# Altium footprint library SOT.PcbLib: 13 footprints
Each footprint in its own frame and in the unit in brackets; x right, y up, seen from the top. Pads: shape width x height; smd on the part's side, far side on the other; paste and mask are expansions set on the pad; w line width, h text height; cw(c..) or ccw(c..) is an arc to the next point about the centre after c.
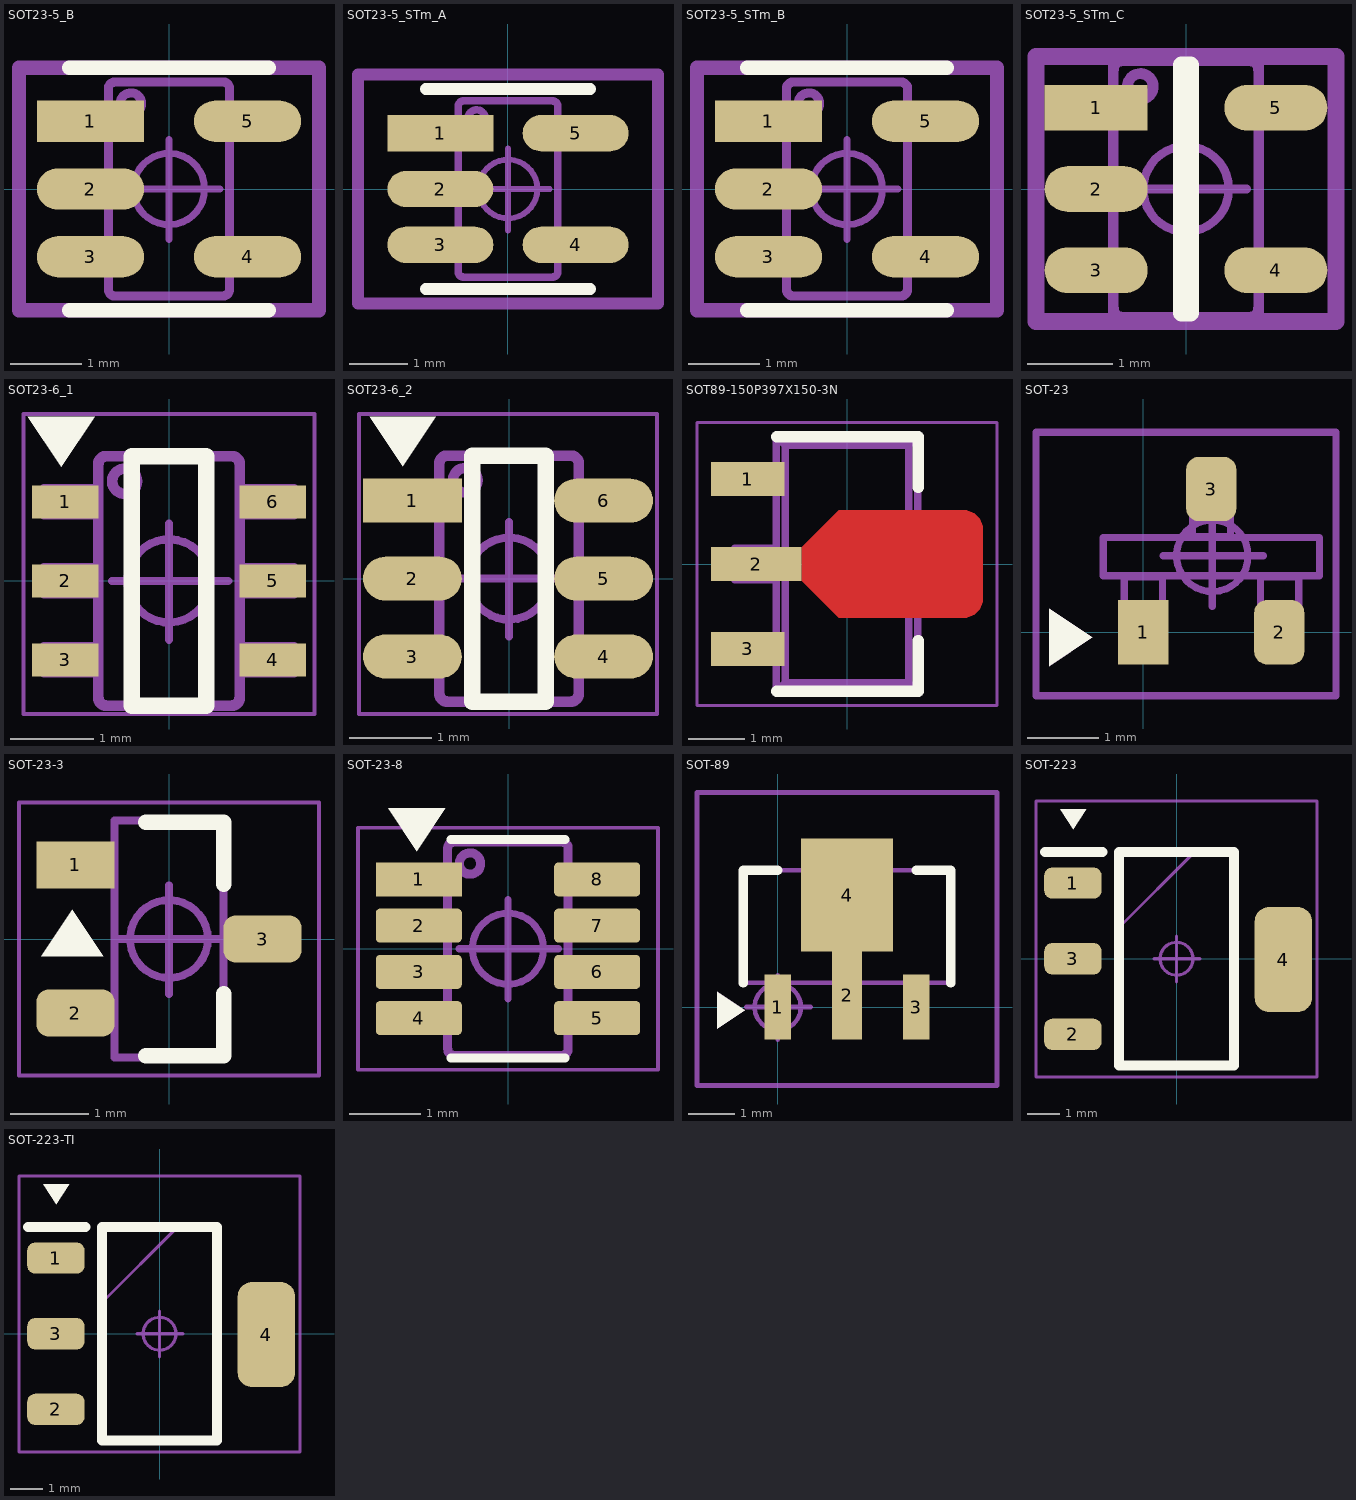
[diagram p0: the footprints below, top view; thin cyan lines are the x and y axes]

## SOT23-5_B [mm]
height 1.45
pads (5):
  rect 1.505x0.576 smd paste+0 mask+0: 1(-1.101,0.95)
  rrect100% 1.505x0.576 smd paste+0 mask+0: 2(-1.101,0) 3(-1.101,-0.95) 4(1.101,-0.95) 5(1.101,0.95)
Top Overlay:
  lines w0.2: -1.4,-1.7 1.4,-1.7 ; -1.4,1.7 1.4,1.7
Top Assembly:
  circle w0.127: c-0.534,1.198 r0.15
  lines w0.127: -0.85,-1.1 -1.05,-1.1 -1.25,-1.1 ; -0.85,-0.8 -1.05,-0.8 -1.25,-0.8 ; -0.85,-0.15 -1.05,-0.15 -1.25,-0.15 ; -0.85,0.15 -1.05,0.15 -1.25,0.15 ; -0.85,0.8 -1.25,0.8 ; -0.85,1.1 -1.25,1.1 ; -0.847,-1.417 ccw(c-0.76,-1.412) -0.755,-1.5 ; -0.767,1.499 ccw(c-0.762,1.411) -0.85,1.407 -0.85,-1.406 -0.85,-1.4 -0.85,-1.4 ; -0.75,-1.5 0.75,-1.5 ; -0.75,1.5 0.75,1.5 ; 0.755,1.5 cw(c0.76,1.412) 0.847,1.417 0.847,1.338 0.847,-1.407 cw(c0.76,-1.411) 0.764,-1.499 ; 0.847,0.8 1.05,0.8 1.25,0.8 ; 0.847,1.1 1.05,1.1 1.25,1.1 ; 0.85,-1.1 1.05,-1.1 1.25,-1.1 ; 0.85,-0.8 1.05,-0.8 1.25,-0.8 ; -1.25,-1.1 -1.35,-1.1 -1.5,-1.1 -1.5,-0.8 -1.35,-0.8 -1.25,-0.8 ; -1.25,-1.1 -1.25,-0.8 ; -1.25,-0.15 -1.35,-0.15 -1.5,-0.15 -1.5,0.15 -1.35,0.15 -1.25,0.15 ; -1.25,-0.15 -1.25,0.15 ; -1.25,0.8 -1.25,1.1 ; -1.25,0.8 -1.35,0.8 -1.5,0.8 -1.5,1.1 -1.35,1.1 -1.25,1.1 ; -0.85,-1.4 -0.85,-1.401 ; -0.85,-1.4 -0.85,-1.4 ; 1.25,-1.1 1.35,-1.1 1.5,-1.1 1.5,-0.8 1.35,-0.8 1.25,-0.8 ; 1.25,-1.1 1.25,-0.8 ; 1.25,0.8 1.25,1.1 ; 1.25,0.8 1.35,0.8 1.5,0.8 1.5,1.1 1.35,1.1 1.25,1.1
Top Component Outline:
  lines w0.2: -2.103,-1.7 2.103,-1.7 2.103,1.7 -2.103,1.7 -2.103,-1.7
Bottom Component Outline:
  lines w0.2: -2.103,-1.7 2.103,-1.7 2.103,1.7 -2.103,1.7 -2.103,-1.7
Top Component Center:
  circle w0.1: c0,0 r0.5
  lines w0.1: -0.686,0 0.711,0 ; -0.001,-0.706 -0.001,0.691
3D body "SOT23-5.stp": height 1.45, standoff 0, extent -1.412,-1.45 1.412,1.45

## SOT23-5_STm_A [mm]
height 1.45
pads (5):
  rect 1.805x0.616 smd paste+0 mask+0: 1(-1.151,0.95)
  rrect100% 1.805x0.616 smd paste+0 mask+0: 2(-1.151,0) 3(-1.151,-0.95) 4(1.151,-0.95) 5(1.151,0.95)
Top Overlay:
  lines w0.2: -1.4,-1.7 1.4,-1.7 ; -1.4,1.7 1.4,1.7
Top Assembly:
  drawing of 590 lines, arcs and shapes, not listed
Top Component Outline:
  lines w0.2: -2.553,-1.95 2.553,-1.95 2.553,1.95 -2.553,1.95 -2.553,-1.95
Bottom Component Outline:
  lines w0.2: -2.553,-1.95 2.553,-1.95 2.553,1.95 -2.553,1.95 -2.553,-1.95
Top Component Center:
  circle w0.1: c0,0 r0.5
  lines w0.1: -0.686,0 0.711,0 ; -0.001,-0.706 -0.001,0.691
3D body "IC_STMicroelectronics_LMV321ILT_eec.STEP": height 1.45, standoff 0, extent -1.412,-1.45 1.412,1.45

## SOT23-5_STm_B [mm]
height 1.45
pads (5):
  rect 1.505x0.576 smd paste+0 mask+0: 1(-1.101,0.95)
  rrect100% 1.505x0.576 smd paste+0 mask+0: 2(-1.101,0) 3(-1.101,-0.95) 4(1.101,-0.95) 5(1.101,0.95)
Top Overlay:
  lines w0.2: -1.4,-1.7 1.4,-1.7 ; -1.4,1.7 1.4,1.7
Top Assembly:
  drawing of 590 lines, arcs and shapes, not listed
Top Component Outline:
  lines w0.2: -2.103,-1.7 -2.103,1.7 2.103,1.7 2.103,-1.7 -2.103,-1.7
Bottom Component Outline:
  lines w0.2: -2.103,-1.7 -2.103,1.7 2.103,1.7 2.103,-1.7 -2.103,-1.7
Top Component Center:
  circle w0.1: c0,0 r0.5
  lines w0.1: -0.686,0 0.711,0 ; -0.001,-0.706 -0.001,0.691
3D body "IC_STMicroelectronics_LMV321ILT_eec.STEP": height 1.45, standoff 0, extent -1.412,-1.45 1.412,1.45

## SOT23-5_STm_C [mm]
height 1.45
pads (5):
  rect 1.205x0.536 smd paste+0 mask+0: 1(-1.051,0.95)
  rrect100% 1.205x0.536 smd paste+0 mask+0: 2(-1.051,0) 3(-1.051,-0.95) 4(1.051,-0.95) 5(1.051,0.95)
Top Overlay:
  lines w0.2: -0.052,-1.45 0.052,-1.45 0.052,1.45 -0.052,1.45 -0.052,-1.45
Top Assembly:
  drawing of 590 lines, arcs and shapes, not listed
Top Component Outline:
  lines w0.2: -1.753,-1.55 -1.753,1.55 1.753,1.55 1.753,-1.55 -1.753,-1.55
Bottom Component Outline:
  lines w0.2: -1.753,-1.55 -1.753,1.55 1.753,1.55 1.753,-1.55 -1.753,-1.55
Top Component Center:
  circle w0.1: c0,0 r0.5
  lines w0.1: -0.686,0 0.711,0 ; -0.001,-0.706 -0.001,0.691
3D body "IC_STMicroelectronics_LMV321ILT_eec.STEP": height 1.45, standoff 0, extent -1.412,-1.45 1.412,1.45

## SOT23-6_1 [mm] "SOT23, 6-Leads, Body 2,90x2,80mm, Pitch 0,95mm, IPC High Density"
height 1.45
pads (6):
  rect 0.8x0.4 smd: 1(-1.25,0.95) 2(-1.25,0) 3(-1.25,-0.95) 4(1.25,-0.95) 5(1.25,0) 6(1.25,0.95)
Top Overlay:
  region: -0.895,1.972 -1.695,1.972 -1.295,1.372
  lines w0.2: -0.45,-1.5 0.45,-1.5 0.45,1.5 -0.45,1.5 -0.45,-1.5
Top Assembly:
  drawing of 600 lines, arcs and shapes, not listed
Top Component Outline:
  lines w0.05: -1.75,-1.6 -1.75,2.007 1.75,2.007 1.75,-1.6 -1.75,-1.6
Top Component Center:
  circle w0.1: c0,0 r0.5
  lines w0.1: -0.686,0 0.711,0 ; -0.001,-0.706 -0.001,0.691
3D body "SOT95P280X145-6L.step": height 1.45, standoff 0, extent -1.5,-1.5 1.5,1.5

## SOT23-6_2 [mm]
height 1.45
pads (6):
  rect 1.205x0.536 smd paste+0 mask+0: 1(-1.178,0.95)
  rrect100% 1.205x0.536 smd paste+0 mask+0: 2(-1.178,0) 3(-1.178,-0.95) 4(1.152,-0.95) 5(1.152,0) 6(1.152,0.95)
Top Overlay:
  region: -0.895,1.972 -1.695,1.972 -1.295,1.372
  lines w0.2: -0.45,-1.5 -0.45,1.5 0.45,1.5 0.45,-1.5 -0.45,-1.5
Top Assembly:
  drawing of 600 lines, arcs and shapes, not listed
Top Component Outline:
  lines w0.05: -1.829,-1.651 1.803,-1.651 1.803,2.007 -1.829,2.007 -1.829,-1.651
Top Component Center:
  circle w0.1: c0,0 r0.5
  lines w0.1: -0.686,0 0.711,0 ; -0.001,-0.706 -0.001,0.691
3D body "SOT95P280X145-6L.step": height 1.45, standoff 0, extent -1.5,-1.5 1.5,1.5

## SOT89-150P397X150-3N [mm] "SOT89, 3-Leads, Body 4,50x2,50mm, Pitch 1,50mm, Lead Span 4,0mm, IPC Medium Density"
height 1.5
pads (3):
  rect 1.3x0.6 smd: 1(-1.75,1.5) 3(-1.75,-1.5)
  rect 1.6x0.6 smd: 2(-1.6,0)
Top Layer:
  region: -0.8,0.3 -0.15,0.95 2.05,0.95 2.12,0.95 2.248,0.897 2.347,0.798 2.4,0.67 2.4,0.6 2.4,-0.6 2.4,-0.67 2.347,-0.798 2.248,-0.897 2.12,-0.95 2.05,-0.95 -0.15,-0.95 -0.8,-0.3
Top Overlay:
  lines w0.2: -1.24,-2.25 1.26,-2.25 1.26,-1.35 ; -1.24,2.25 1.26,2.25 1.26,1.35
Top Assembly:
  lines w0.1: 0.79,-2.25 1.092,-2.092
  lines w0.127: -1.99,-1.71 -1.99,-1.29 ; -1.99,-1.71 -1.99,-1.29 ; -1.99,-1.71 -1.246,-1.71 ; -1.99,-1.71 -1.246,-1.71 ; -1.99,-1.29 -1.246,-1.29 ; -1.99,-1.29 -1.246,-1.29 ; -1.99,-0.28 -1.99,0.28 ; -1.99,-0.28 -1.246,-0.28 ; -1.99,-0.28 -1.246,-0.28 ; -1.99,-0.28 -1.99,0.28 ; -1.99,0.28 -1.246,0.28 ; -1.99,0.28 -1.246,0.28 ; -1.99,1.29 -1.99,1.71 ; -1.99,1.29 -1.99,1.71 ; -1.99,1.29 -1.246,1.29 ; -1.99,1.29 -1.246,1.29 ; -1.99,1.71 -1.246,1.71 ; -1.99,1.71 -1.246,1.71 ; -1.25,-2.25 -1.25,-1.71 -1.25,-2.25 ; -1.25,-2.25 -1.092,-2.092 ; -1.25,-2.25 -1.092,-2.092 ; -1.25,-2.25 1.25,-2.25 ; -1.25,-2.25 1.25,-2.25 ; -1.25,2.25 -1.25,1.71 -1.25,2.25 ; -1.25,2.25 -1.092,2.092 ; -1.25,2.25 -1.092,2.092 ; -1.25,2.25 1.25,2.25 ; -1.25,2.25 1.25,2.25 ; -1.246,-1.71 -1.246,-1.29 ; -1.246,-1.71 -1.246,-1.29 ; -1.246,-0.28 -1.246,0.28 ; -1.246,-0.28 -1.246,0.28 ; -1.246,1.29 -1.246,1.71 ; -1.246,1.29 -1.246,1.71 ; -1.092,-2.092 1.092,-2.092 ; -1.092,-2.092 1.092,-2.092 ; -1.092,-2.092 -1.092,2.092 ; -1.092,-2.092 -1.092,2.092 ; -1.092,2.092 1.092,2.092 ; -1.092,2.092 1.092,2.092 ; 1.092,-2.092 1.092,2.092 ; 1.092,-2.092 1.25,-2.25 ; 1.092,-2.092 1.25,-2.25 ; 1.092,-2.092 1.092,2.092 ; 1.092,2.092 1.25,2.25 ; 1.092,2.092 1.25,2.25 ; 1.246,-0.915 1.265,-0.915 ; 1.246,-0.915 1.265,-0.915 ; 1.246,-0.915 1.246,0.915 ; 1.246,-0.915 1.246,0.915 ; 1.246,0.915 1.265,0.915 ; 1.246,0.915 1.265,0.915 ; 1.25,-2.25 1.25,-0.915 1.25,-2.25 ; 1.25,2.25 1.25,0.915 1.25,2.25 ; 1.265,-0.915 1.9,-0.28 ; 1.265,-0.915 1.9,-0.28 ; 1.265,0.915 1.9,0.28 ; 1.265,0.915 1.9,0.28 ; 1.9,-0.28 1.9,0.28 ; 1.9,-0.28 1.9,0.28 ; -1.25,-1.29 -1.25,-0.28 -1.25,-1.29 ; -1.25,0.28 -1.25,1.29 -1.25,0.28
Top Component Outline:
  lines w0.05: -2.65,-2.5 -2.65,2.5 2.65,2.5 2.65,-2.5 -2.65,-2.5
Top Courtyard:
  lines w0.1: -0.49,0 0.51,0 ; 0.01,-0.5 0.01,0.5
Top Component Center:
  circle w0.1: c0,0 r0.5
  lines w0.1: -0.686,0 0.711,0 ; -0.001,-0.706 -0.001,0.691
3D body "SOT89-150P397X150-3N.step": height 1.5, standoff 0, extent -1.99,-2.25 1.9,2.25

## SOT-23 [mm]
pads (3):
  rect 0.7x0.9 smd: 1(0,0)
  rrect50% 0.7x0.9 smd: 2(1.9,0) 3(0.95,2)
Top Overlay:
  region: -1.316,0.327 -1.316,-0.473 -0.716,-0.073
Top Assembly:
  region: -1.316,0.327 -1.316,-0.473 -0.716,-0.073
  lines w0.1: -0.559,0.787 2.464,0.787 2.464,1.321 -0.559,1.321 -0.559,0.787 ; -0.267,-0.127 0.267,-0.127 0.267,0.775 -0.267,0.775 -0.267,-0.127 ; 0.686,1.333 1.219,1.333 1.219,2.235 0.686,2.235 0.686,1.333 ; 1.638,-0.127 2.172,-0.127 2.172,0.775 1.638,0.775 1.638,-0.127
Top Component Outline:
  lines w0.1: -1.499,-0.889 -1.499,2.794 2.692,2.794 2.692,-0.889 -1.499,-0.889
Top Component Center:
  circle w0.1: c0.965,1.067 r0.5
  lines w0.1: 0.279,1.067 1.676,1.067 ; 0.964,0.361 0.964,1.758
3D body "SOT-23.STEP": height 1.1, standoff 0, extent -0.55,-0.275 2.45,2.225

## SOT-23-3 [mm] "SOT23, 3-Leads, Body 2,92x2,45mm, Pitch 0,95mm, IPC Medium Density"
height 1.02
pads (3):
  rect 1x0.6 smd: 1(-1.2,0.95)
  rrect50% 1x0.6 smd: 2(-1.2,-0.95) 3(1.2,0)
Top Overlay:
  region: -1.641,-0.224 -0.841,-0.224 -1.241,0.376
  lines w0.2: -0.3,-1.5 0.7,-1.5 0.7,-0.7 ; -0.3,1.5 0.7,1.5 0.7,0.7
Top Assembly:
  lines w0.1: -0.7,-1.52 0.7,-1.52 0.7,1.52 -0.7,1.52 -0.7,-1.52
Top Component Outline:
  lines w0.05: -1.925,-1.75 1.925,-1.75 1.925,1.75 -1.925,1.75 -1.925,-1.75
Top Component Center:
  circle w0.1: c0,0 r0.5
  lines w0.1: -0.686,0 0.711,0 ; -0.001,-0.706 -0.001,0.691
3D body "SOT95P245X102-3N.step": height 1.02, standoff 0, extent -1.3,-1.52 1.3,1.52

## SOT-23-8 [mm]
height 1.02
pads (8):
  rect 1.21x0.48 smd: 1(-1.255,0.975)
  rrect25% 1.21x0.48 smd: 2(-1.255,0.325) 3(-1.255,-0.325) 4(-1.255,-0.975) 5(1.255,-0.975) 6(1.255,-0.325) 7(1.255,0.325) 8(1.255,0.975)
Top Overlay:
  region: -0.884,1.974 -1.684,1.974 -1.284,1.374
  lines w0.127: -0.8,-1.535 0.8,-1.535 ; -0.8,1.535 0.8,1.535
Top Assembly:
  circle w0.127: c-0.534,1.198 r0.15
  lines w0.127: -0.85,-1.125 -1.404,-1.125 ; -0.85,-0.825 -1.404,-0.825 ; -0.85,-0.475 -1.404,-0.475 ; -0.85,-0.175 -1.404,-0.175 ; -0.85,0.175 -1.404,0.175 ; -0.85,0.475 -1.404,0.475 ; -0.85,0.825 -1.404,0.825 ; -0.85,1.125 -1.404,1.125 ; -0.847,-1.417 ccw(c-0.76,-1.412) -0.755,-1.5 ; -0.767,1.499 ccw(c-0.762,1.411) -0.85,1.407 -0.85,-1.406 -0.85,-1.4 -0.85,-1.4 ; -0.75,-1.5 0.75,-1.5 ; -0.75,1.5 0.75,1.5 ; 0.755,1.5 cw(c0.76,1.412) 0.847,1.417 0.847,1.338 0.847,-1.407 cw(c0.76,-1.411) 0.764,-1.499 ; 0.85,-1.125 1.404,-1.125 ; 0.85,-0.825 1.404,-0.825 ; 0.85,-0.475 1.404,-0.475 ; 0.85,-0.175 1.404,-0.175 ; 0.85,0.175 1.404,0.175 ; 0.85,0.475 1.404,0.475 ; 0.85,0.825 1.404,0.825 ; 0.85,1.125 1.404,1.125 ; -1.404,-1.125 -1.654,-1.125 -1.654,-0.825 -1.404,-0.825 ; -1.404,-1.125 -1.404,-0.825 ; -1.404,-0.475 -1.654,-0.475 -1.654,-0.175 -1.404,-0.175 ; -1.404,-0.475 -1.404,-0.175 ; -1.404,0.175 -1.654,0.175 -1.654,0.475 -1.404,0.475 ; -1.404,0.175 -1.404,0.475 ; -1.404,0.825 -1.654,0.825 -1.654,1.125 -1.404,1.125 ; -1.404,0.825 -1.404,1.125 ; -0.85,-1.4 -0.85,-1.401 ; -0.85,-1.4 -0.85,-1.4 ; 1.404,-1.125 1.654,-1.125 1.654,-0.825 1.404,-0.825 ; 1.404,-1.125 1.404,-0.825 ; 1.404,-0.475 1.654,-0.475 1.654,-0.175 1.404,-0.175 ; 1.404,-0.475 1.404,-0.175 ; 1.404,0.175 1.654,0.175 1.654,0.475 1.404,0.475 ; 1.404,0.175 1.404,0.475 ; 1.404,0.825 1.654,0.825 1.654,1.125 1.404,1.125 ; 1.404,0.825 1.404,1.125
Bottom Component Outline:
  lines w0.05: -2.11,-1.7 -2.11,1.7 2.11,1.7 2.11,-1.7 -2.11,-1.7
Top Component Center:
  circle w0.1: c0,0 r0.5
  lines w0.1: -0.686,0 0.711,0 ; -0.001,-0.706 -0.001,0.691
3D body "step_temp.STEP": height 1.45, standoff 0, extent -1.4,-1.5 1.4,1.5

## SOT-89 [mm]
pads (4):
  rect 0.57x1.4 smd: 1(0,0) 3(3,0)
  rect 0.65x1.9 smd: 2(1.5,0.25)
  rect 2x2.45 smd: 4(1.5,2.425)
Top Overlay:
  region: -1.316,0.327 -1.316,-0.473 -0.716,-0.073
  lines w0.2: -0.75,0.522 -0.75,2.966 0,2.966 ; 3,2.966 3.75,2.966 3.75,0.522
Top Assembly:
  region: -1.316,0.327 -1.316,-0.473 -0.716,-0.073
  lines w0.1: -0.75,0.522 -0.75,2.966 3.75,2.966 3.75,0.522 -0.75,0.522
Bottom Component Outline:
  lines w0.1: -1.75,-1.701 -1.75,4.649 4.75,4.649 4.75,-1.701 -1.75,-1.701
Top Component Center:
  circle w0.1: c0,0 r0.5
  lines w0.1: -0.686,0 0.711,0 ; -0.001,-0.706 -0.001,0.691
3D body "L78L05ABUTR.stp": height 1.65, standoff 0, extent -0.799,-0.745 3.799,3.497

## SOT-223 [mm]
pads (4):
  rrect50% 1.75x0.95 smd: 1(-3.15,2.3) 2(-3.15,-2.3) 3(-3.15,0)
  rrect50% 1.75x3.2 smd: 4(3.251,-0.025)
Top Overlay:
  region: -2.743,4.54 -3.543,4.54 -3.143,3.94
  lines w0.3: -4,3.25 -2.25,3.25 ; -1.75,-3.25 1.75,-3.25 1.75,3.25 -1.75,3.25 -1.75,-3.25
Top Assembly:
  lines w0.1: -1.75,0.95 0.55,3.25 ; -1.75,-3.25 1.75,-3.25 1.75,3.25 -1.75,3.25 -1.75,-3.25
Top Component Outline:
  lines w0.1: -4.275,-3.6 4.275,-3.6 4.275,4.801 -4.275,4.801 -4.275,-3.6
Top Component Center:
  circle w0.1: c0,0 r0.5
  lines w0.1: -0.686,0 0.711,0 ; -0.001,-0.706 -0.001,0.691
3D body "SOT-223.stp": height 1.68, standoff 0, extent -3.88,-3.301 3.9,3.199

## SOT-223-TI [mm]
pads (4):
  rrect50% 1.75x0.95 smd: 1(-3.15,2.3) 2(-3.15,-2.3) 3(-3.15,0)
  rrect50% 1.75x3.2 smd: 4(3.251,-0.025)
Top Overlay:
  region: -2.743,4.54 -3.543,4.54 -3.143,3.94
  lines w0.3: -4,3.25 -2.25,3.25 ; -1.75,-3.25 -1.75,3.25 1.75,3.25 1.75,-3.25 -1.75,-3.25
Top Assembly:
  lines w0.1: -1.75,0.95 0.55,3.25 ; -1.75,-3.25 -1.75,3.25 1.75,3.25 1.75,-3.25 -1.75,-3.25
Top Component Outline:
  lines w0.1: -4.275,-3.6 -4.275,4.801 4.275,4.801 4.275,-3.6 -4.275,-3.6
Top Component Center:
  circle w0.1: c0,0 r0.5
  lines w0.1: -0.686,0 0.711,0 ; -0.001,-0.706 -0.001,0.691
3D body "SOT-223-TI.stp": height 1.73, standoff 0, extent -3.88,-3.301 3.9,3.199